# Altium footprint library F159000C.PcbLib: 1 footprints
Each footprint in its own frame and in the unit in brackets; x right, y up, seen from the top. Pads: shape width x height; smd on the part's side, far side on the other; paste and mask are expansions set on the pad; w line width, h text height; cw(c..) or ccw(c..) is an arc to the next point about the centre after c.
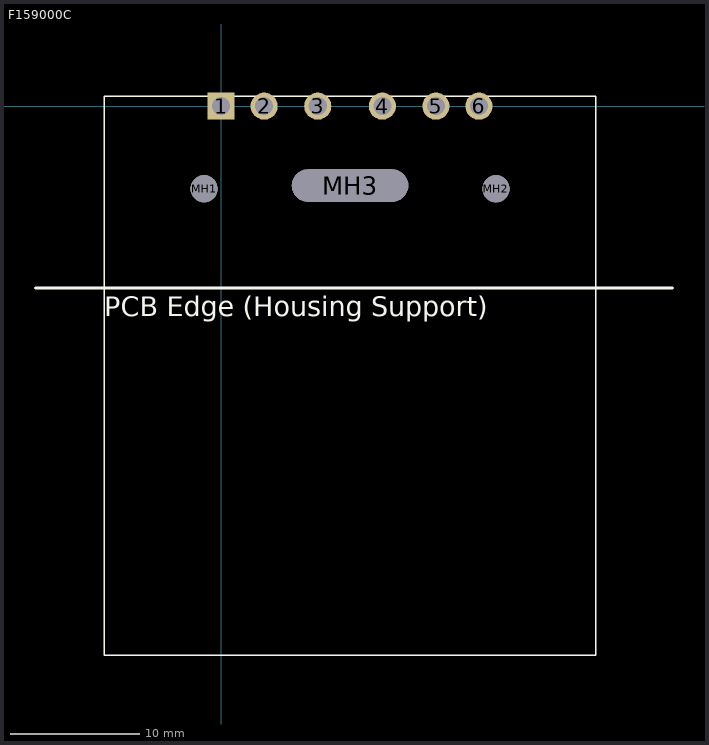
[diagram p0: the footprint, top view; thin cyan lines are the x and y axes]

## F159000C [mm] "Delphi Automotive Connector"
height 19
pads (9):
  rect 2.1x2.1 hole 1.4: 1(0,0)
  round 2.1 hole 1.4: 2(3.33,0) 3(7.48,0) 4(12.48,0) 5(16.63,0) 6(19.96,0)
  round 2.1 hole 2.1: MH1(-1.32,-6.4) MH2(21.28,-6.4)
  rrect100% 9x2.5 hole 2.5 slot 9 at 0 deg: MH3(9.98,-6.15)
Top Overlay:
  lines w0.127: -9.053,-42.531 28.997,-42.531 28.997,0.776 -9.053,0.776 -9.053,-42.531
  lines w0.254: -14.351,-14.08 34.925,-14.08
  text "PCB Edge (Housing Support)" at -9.053,-16.256 h1.52
3D body "F159000C.stp": height 16, standoff -4.73, extent -9.053,-42.589 28.947,0.791